# Altium schematic symbol library SCHEM RGB ecran.SchLib: 18 symbols
Pins are listed as number, name and electrical type; pins without a type are passive.

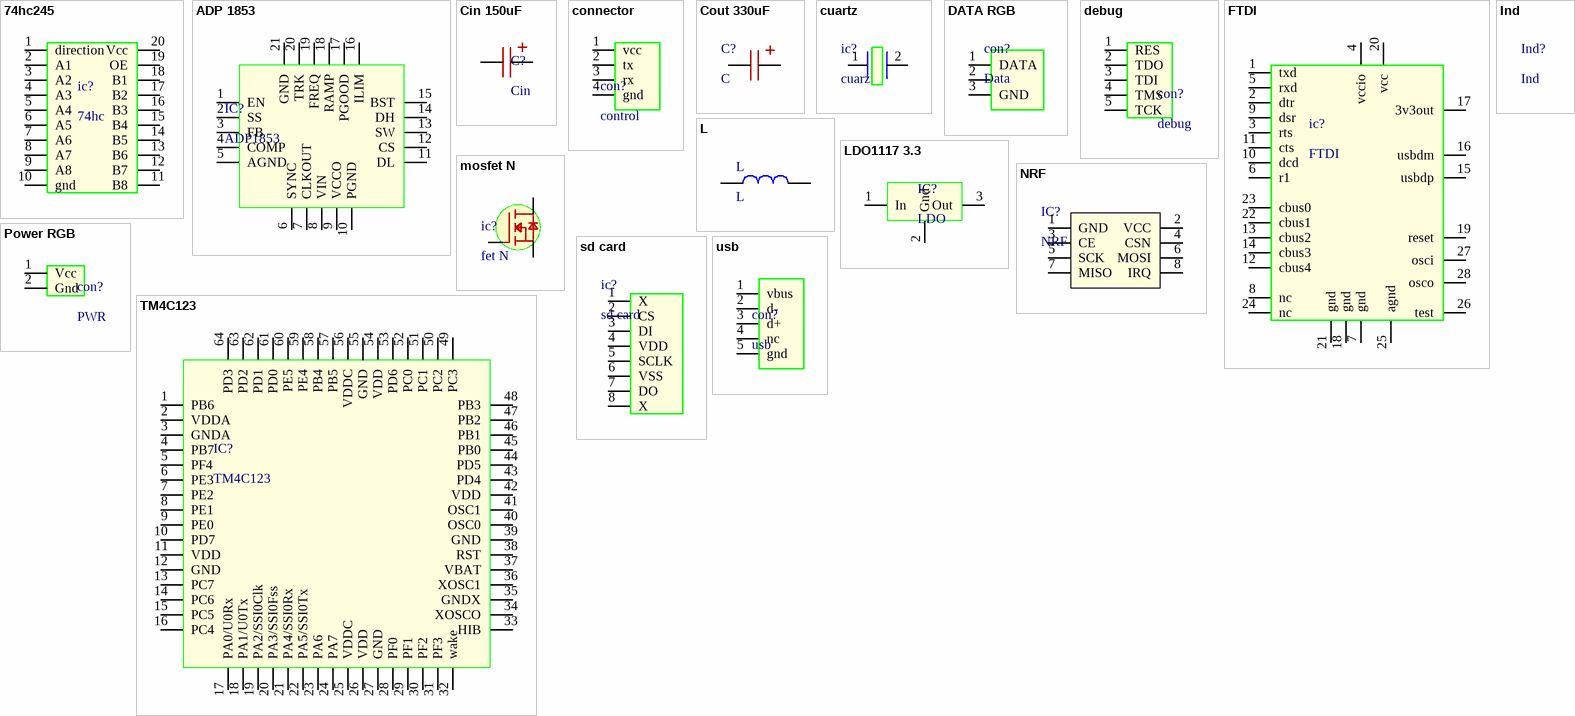
[diagram p0: symbols 74hc245 to usb]

## 74hc245
designator ic?, comment 74hc
footprint 74hc245a (SOIC, 20-Leads, Body 12,80x7,50mm, Pitch 1,27mm, IPC Medium Density)
pins: 1 direction, 2 A1, 3 A2, 4 A3, 5 A4, 6 A5, 7 A6, 8 A7, 9 A8, 10 gnd, 11 B8, 12 B7, 13 B6, 14 B5, 15 B4, 16 B3, 17 B2, 18 B1, 19 OE, 20 Vcc

## ADP 1853
designator IC?, comment ADP1853
footprint ADP1853 (PQFN, 20-Leads, Body 4,10x4,10mm, Pitch 0,50mm, Thermal Pad 2,50x2,50mm, IPC Medium Density)
pins: 1 EN, 2 SS, 3 FB, 4 COMP, 5 AGND, 6 SYNC, 7 CLKOUT, 8 VIN, 9 VCCO, 10 PGND, 11 DL, 12 CS, 13 SW, 14 DH, 15 BST, 16 ILIM, 17 PGOOD, 18 RAMP, 19 FREQ, 20 TRK, 21 GND

## Cin 150uF
designator C?, comment Cin
footprint Cin 150uF
pins: 1, 2

## connector
designator con?, comment control
footprint control
pins: 1 vcc, 2 tx, 3 rx, 4 gnd

## Cout 330uF
designator C?, comment C
footprint Cout 330uF (Molded Capacitor, 2-Leads, Body 7,30x4,30mm, IPC Medium Density)
pins: 1, 2

## cuartz
designator ic?, comment cuarz
footprint quartz (Chip Resistor, 2-Leads, Body 5,20x3,30mm, IPC Medium Density)
pins: 1, 2

## DATA RGB
designator con?, comment Data
footprint canale
pins: 1 DATA, 2, 3 GND

## debug
designator con?
footprint Debug
pins: 1 RES, 2 TDO, 3 TDI, 4 TMS, 5 TCK

## FTDI
designator ic?
footprint FTDI (SOP, 28-Leads, Body 10,20x5,30mm, Pitch 0,65mm, IPC Medium Density)
pins: 1 txd, 2 dtr, 3 rts, 4 vccio, 5 rxd, 6 r1, 7 gnd, 8 nc, 9 dsr, 10 dcd, 11 cts, 12 cbus4, 13 cbus2, 14 cbus3, 15 usbdp, 16 usbdm, 17 3v3out, 18 gnd, 19 reset, 20 vcc, 21 gnd, 22 cbus1, 23 cbus0, 24 nc, 25 agnd, 26 test, 27 osci, 28 osco

## Ind
designator Ind?
Part Name: 1864081; Name: Inductante; Datasheet: http://www.farnell.com/datasheets/1671719.pdf

## L
designator L
footprint L (Molded Inductor, 2-Leads, Body 13,80x13,80mm, IPC Medium Density)
footprint MCSDC0603 (Chip Capacitor, 2-Leads, Body 6.00x5.80mm, IPC Medium Density)
pins: 1, 2

## LDO1117 3.3
designator IC?, comment LDO
footprint LDO1117-3.3 (SOT223, 4-Leads, Body 6,50x7,00mm (avg), Pitch 2,30mm, IPC Medium Density)
pins: 1 In, 2 Gnd, 3 Out

## mosfet N
designator ic?, comment fet N
footprint fet N (SOT223, 5-Leads, Body 4,90x6,00mm (avg), Pitch 1,27mm, IPC Medium Density)
pins: 1 G, 2 D, 3 S

## NRF
designator IC?
footprint NRF
pins: 1 GND, 2 VCC, 3 CE, 4 CSN, 5 SCK, 6 MOSI, 7 MISO, 8 IRQ

## Power RGB
designator con?, comment PWR
footprint T connector
pins: 1 Vcc, 2 Gnd

## sd card
designator ic?
footprint sd card
pins: 1 X, 2 CS, 3 DI, 4 VDD, 5 SCLK, 6 VSS, 7 DO, 8 X

## TM4C123
designator IC?
footprint TM4C123 (TSQFP, 64-Leads, Body 10,00x10,00mm, Pitch 0,50mm, IPC Medium Density)
pins: 1 PB6, 2 VDDA, 3 GNDA, 4 PB7, 5 PF4, 6 PE3, 7 PE2, 8 PE1, 9 PE0, 10 PD7, 11 VDD, 12 GND, 13 PC7, 14 PC6, 15 PC5, 16 PC4, 17 PA0/U0Rx, 18 PA1/U0Tx, 19 PA2/SSI0Clk, 20 PA3/SSI0Fss, 21 PA4/SSI0Rx, 22 PA5/SSI0Tx, 23 PA6, 24 PA7, 25 VDDC, 26 VDD, 27 GND, 28 PF0, 29 PF1, 30 PF2, 31 PF3, 32 wake, 33 HIB, 34 XOSCO, 35 GNDX, 36 XOSC1, 37 VBAT, 38 RST, 39 GND, 40 OSC0, 41 OSC1, 42 VDD, 43 PD4, 44 PD5, 45 PB0, 46 PB1, 47 PB2, 48 PB3, 49 PC3, 50 PC2, 51 PC1, 52 PC0, 53 PD6, 54 VDD, 55 GND, 56 VDDC, 57 PB5, 58 PB4, 59 PE4, 60 PE5, 61 PD0, 62 PD1, 63 PD2, 64 PD3

## usb
designator con?
footprint mini usb b
pins: 1 vbus, 2 d-, 3 d+, 4 nc, 5 gnd